# EAGLE library part BTM-331 (library rayson__btm_bluetooth_modul)
Bluetooth ®Module Class2 BC04-rom HCI Module
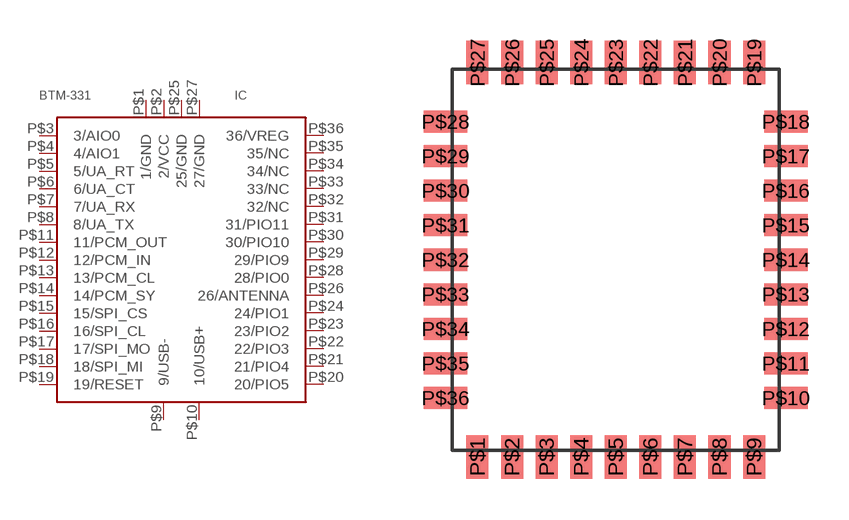
[diagram p4: symbol with the pads of BTM-331; footprint BTM-331]

Designator prefix IC

## BTM-331  [BTM-331]
P$1  1/GND  pwr
P$2  2/VCC  pwr
P$3  3/AIO0
P$4  4/AIO1
P$5  5/UA_RT  out
P$6  6/UA_CT  in
P$7  7/UA_RX  in
P$8  8/UA_TX  out
P$9  9/USB-  pwr
P$10  10/USB+  pwr
P$11  11/PCM_OUT  out
P$12  12/PCM_IN  in
P$13  13/PCM_CL
P$14  14/PCM_SY
P$15  15/SPI_CS  in
P$16  16/SPI_CL  in
P$17  17/SPI_MO  in
P$18  18/SPI_MI  out
P$19  19/RESET  in
P$20  20/PIO5
P$21  21/PIO4
P$22  22/PIO3
P$23  23/PIO2
P$24  24/PIO1
P$25  25/GND  pwr
P$26  26/ANTENNA  in
P$27  27/GND  pwr
P$28  28/PIO0
P$29  29/PIO9
P$30  30/PIO10
P$31  31/PIO11
P$32  32/NC  nc
P$33  33/NC  nc
P$34  34/NC  nc
P$35  35/NC  nc
P$36  36/VREG  in

## Footprint BTM-331 (pad centres in mm)
smd 0.81 x 1.6: P$1 -5.08,-7.25; P$2 -3.81,-7.25; P$3 -2.54,-7.25; P$4 -1.27,-7.25; P$5 0,-7.25; P$6 1.27,-7.25; P$7 2.54,-7.25; P$8 3.81,-7.25; P$9 5.08,-7.25; P$19 5.08,7.25; P$20 3.81,7.25; P$21 2.54,7.25; P$22 1.27,7.25; P$23 0,7.25; P$24 -1.27,7.25; P$25 -2.54,7.25; P$26 -3.81,7.25; P$27 -5.08,7.25
smd 1.6 x 0.81: P$10 6.25,-5.08; P$11 6.25,-3.81; P$12 6.25,-2.54; P$13 6.25,-1.27; P$14 6.25,0; P$15 6.25,1.27; P$16 6.25,2.54; P$17 6.25,3.81; P$18 6.25,5.08; P$28 -6.25,5.08; P$29 -6.25,3.81; P$30 -6.25,2.54; P$31 -6.25,1.27; P$32 -6.25,0; P$33 -6.25,-1.27; P$34 -6.25,-2.54; P$35 -6.25,-3.81; P$36 -6.25,-5.08